# EAGLE library part 686116148922 (library Eagle_FPC_CONNECTOR_AND_FFC_CAB (rev18c))
WR-FPC 1mm SMT Horiz. Bot. Contact Hinge type WR-FPC 1mm 16 pins Hinge type SMT Horizontal Bottom Contact ;=>Code : Con_FPC_ZIF_1.00_6861xx148922_686116148922 <http://katalog.we-online.de/media/images/eican/Con_FPC_ZIF_1.00_686110148922_pf2.jpg> Details see: http://katalog.we-online.de/em/datasheet/6861xx148922.pdf Created 2014-10-08, Karrer Zheng 2014 (C) Wurth Elektronik
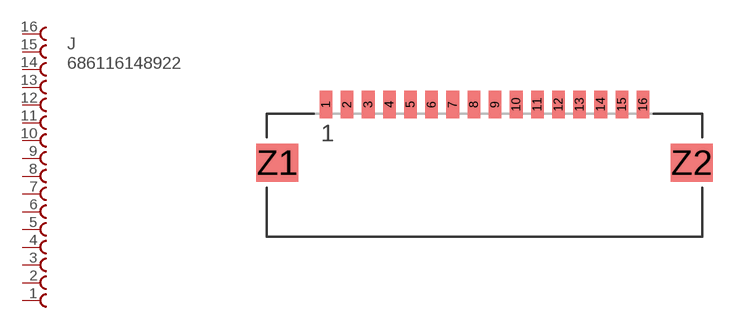
[diagram p96: symbol with the pads of 686116148922; footprint 686116148922]

Designator prefix J

## 686116148922  [686116148922]
1  16  pas
2  15  pas
3  14  pas
4  13  pas
5  12  pas
6  11  pas
7  10  pas
8  9  pas
9  8  pas
10  7  pas
11  6  pas
12  5  pas
13  4  pas
14  3  pas
15  2  pas
16  1  pas

## Footprint 686116148922 (pad centres in mm)
WR-FPC 1mm SMT Horiz. Bot. Contact Hinge type WR-FPC 1mm 16pins Hinge type SMT Horizontal Bottom Contact
smd 0.6 x 1.3: 1 -7.5,2.75; 2 -6.5,2.75; 3 -5.5,2.75; 4 -4.5,2.75; 5 -3.5,2.75; 6 -2.5,2.75; 7 -1.5,2.75; 8 -0.5,2.75; 9 0.5,2.75; 10 1.5,2.75; 11 2.5,2.75; 12 3.5,2.75; 13 4.5,2.75; 14 5.5,2.75; 15 6.5,2.75; 16 7.5,2.75
smd 2 x 1.8: Z1 -9.8,0; Z2 9.8,0